# EAGLE library part E-SWITCH_JS5208 (library tiny_stella)
Navigation Switches
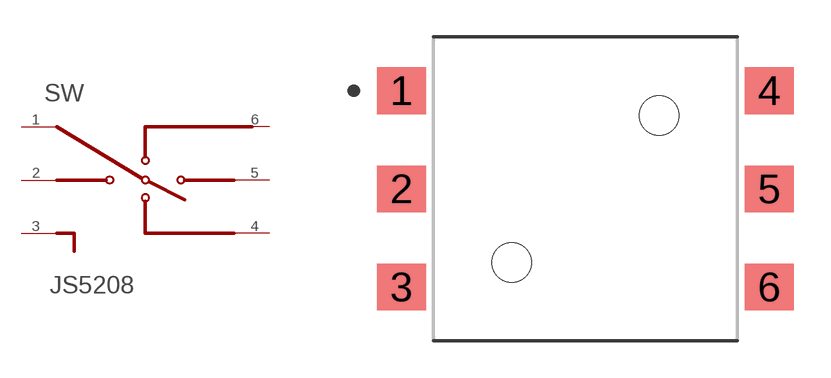
[diagram p5: symbol with the pads of E-SWITCH_JS5208_0; footprint E-SWITCH_JS5208_0]

Designator prefix SW

## E-SWITCH_JS5208E-SWITCH_JS5208_0_0 (CENTROID_NOT_SPECIFIED: No; DATASHEET: https://www.e-switch.com/system/asset/product_line/data_sheet/23/JS5208.pdf; DIGIKEY_DESCRIPTION: SWITCH NAVIGATION 20MA 15V; DIGIKEY_PART_NUMBER: EG4561-ND; LEAD_FREE: yes; MF: E-Switch; MFG_PACKAGE_IDENT: http://spec_sheets.e-switch.com/specs/P200020.pdf; MOUSER_PART_NUMBER: 612-JS5208; MPN: JS5208; PACKAGE: SW_PTH_12MM4_12MM4; PREFIX: SW; ROHS: yes; TEMPERATURE_RANGE_HIGH: +70°C; TEMPERATURE_RANGE_LOW: -20°C)  [E-SWITCH_JS5208_0]
1  COMM.
2  2
3  PUSH(N.O.)
4  4
5  5
6  6

## Footprint E-SWITCH_JS5208_0 (pad centres in mm)
Navigation Switches
smd 2 x 1.9: 1 -7.5,4; 2 -7.5,0; 3 -7.5,-4; 4 7.5,4; 5 7.5,0; 6 7.5,-4
hole 1.6 at 3,3
hole 1.6 at -3,-3